# Altium schematic symbol library Dev1.SCHLIB: 99 symbols
Pins are listed as number, name and electrical type; pins without a type are passive.

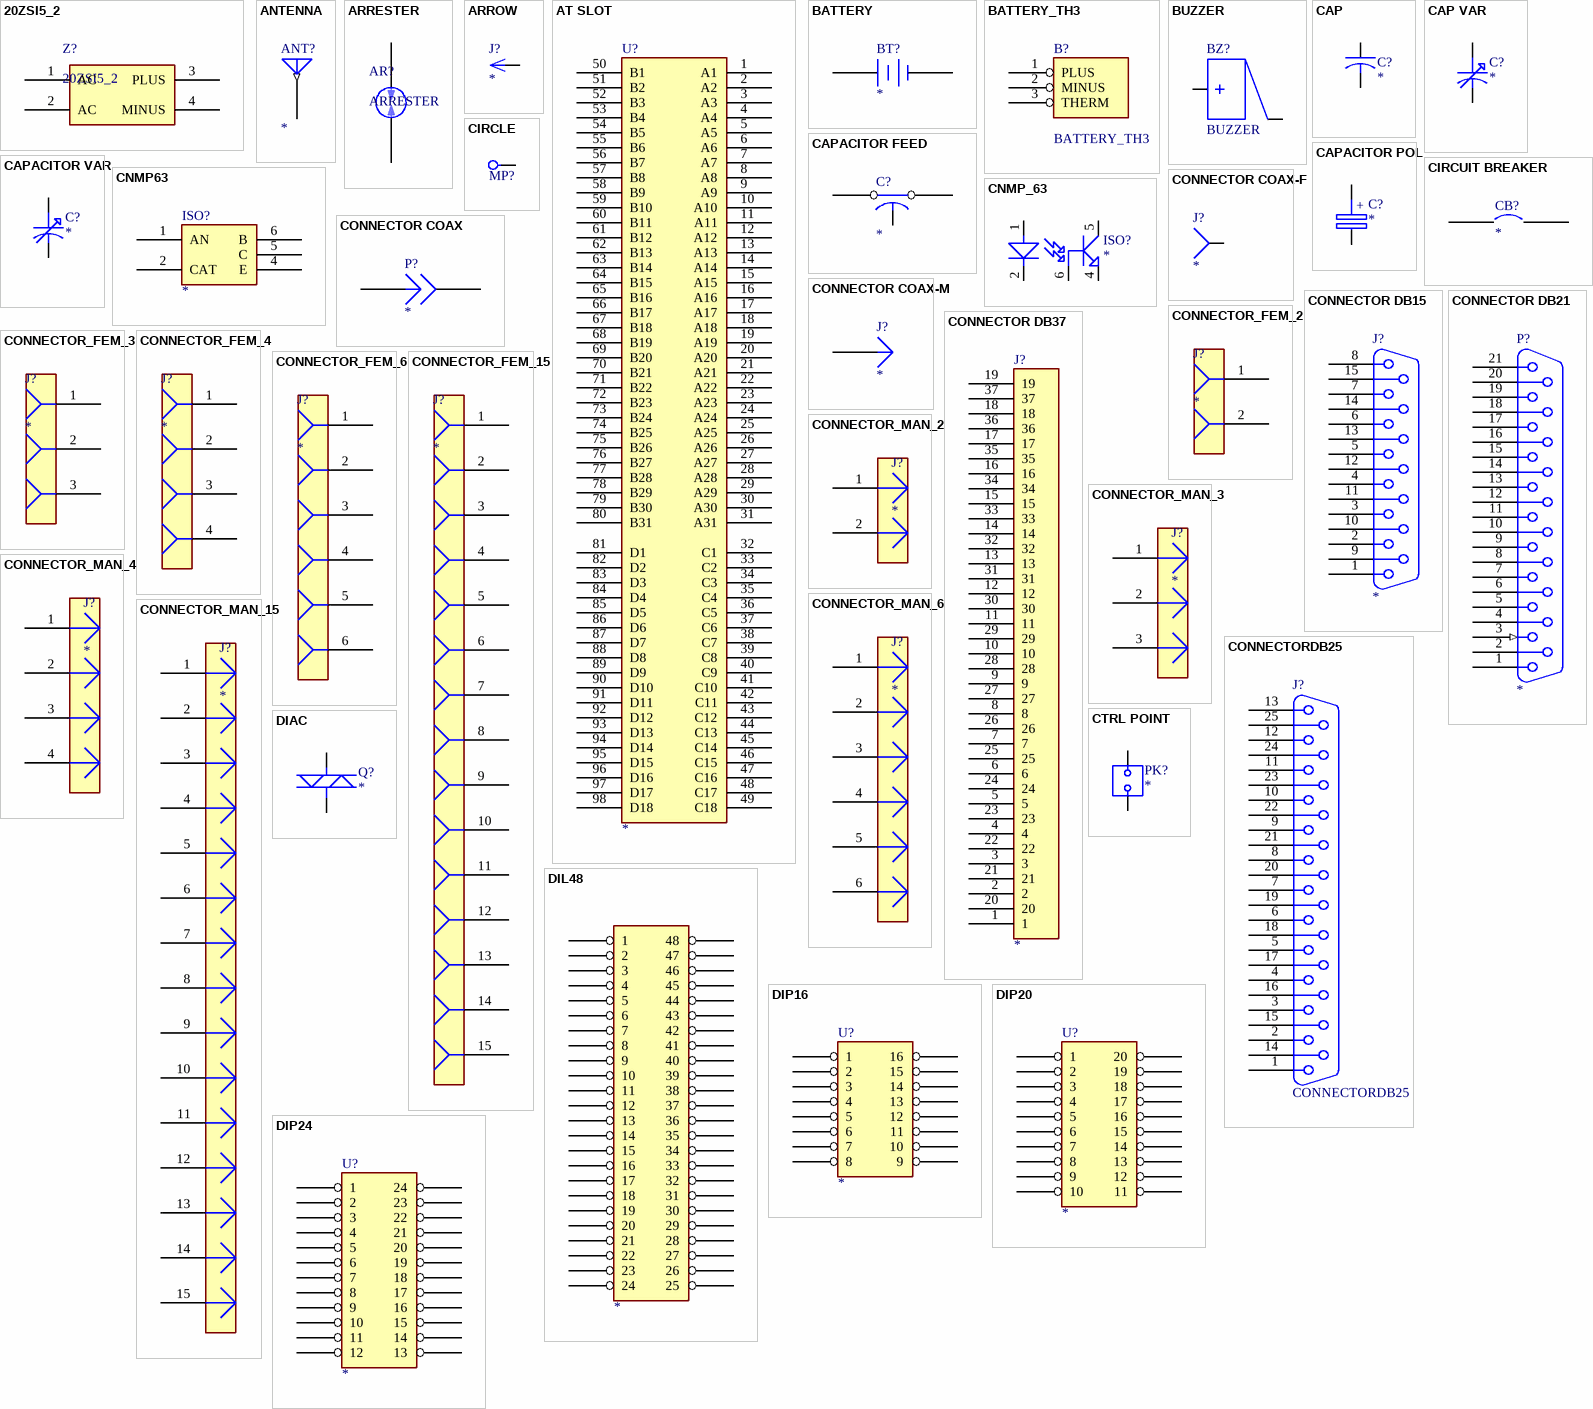
[diagram p0: symbols 20ZSI5_2 to DIP24]

## 20ZSI5_2
designator Z?
Value: 20ZSI5_2
pins: 1 AC, 2 AC, 3 PLUS, 4 MINUS

## ANTENNA
designator ANT?
pins: 1 (out)

## ARRESTER
designator AR?
Value: ARRESTER
pins: 1, 2

## ARROW
designator J?
pins: 1

## AT SLOT
designator U?
pins: 1 A1, 2 A2, 3 A3, 4 A4, 5 A5, 6 A6, 7 A7, 8 A8, 9 A9, 10 A10, 11 A11, 12 A12, 13 A13, 14 A14, 15 A15, 16 A16, 17 A17, 18 A18, 19 A19, 20 A20, 21 A21, 22 A22, 23 A23, 24 A24, 25 A25, 26 A26, 27 A27, 28 A28, 29 A29, 30 A30, 31 A31, 32 C1, 33 C2, 34 C3, 35 C4, 36 C5, 37 C6, 38 C7, 39 C8, 40 C9, 41 C10, 42 C11, 43 C12, 44 C13, 45 C14, 46 C15, 47 C16, 48 C17, 49 C18, 50 B1, 51 B2, 52 B3, 53 B4, 54 B5, 55 B6, 56 B7, 57 B8, 58 B9, 59 B10, 60 B11, 61 B12, 62 B13, 63 B14, 64 B15, 65 B16, 66 B17, 67 B18, 68 B19, 69 B20, 70 B21, 71 B22, 72 B23, 73 B24, 74 B25, 75 B26, 76 B27, 77 B28, 78 B29, 79 B30, 80 B31, 81 D1, 82 D2, 83 D3, 84 D4, 85 D5, 86 D6, 87 D7, 88 D8, 89 D9, 90 D10, 91 D11, 92 D12, 93 D13, 94 D14, 95 D15, 96 D16, 97 D17, 98 D18

## BATTERY
designator BT?
pins: MINU, PLUS

## BATTERY_TH3
designator B?
Value: BATTERY_TH3
pins: 1 PLUS, 2 MINUS, 3 THERM

## BUZZER
designator BZ?
Value: BUZZER
pins: 1, 2

## CAP
designator C?
pins: 1, 2

## CAP VAR
designator C?
pins: 1, 2

## CAPACITOR FEED
designator C?
pins: 1, 2, 3

## CAPACITOR POL
designator C?
pins: 1, 2
text: +

## CAPACITOR VAR
designator C?
pins: 1, 2

## CIRCLE
designator MP?  (value not drawn)  (no BOM)
Order code: don't order, measurement point; Supplier: -----; Value: CIRCLE
footprint TV1
pins: 1

## CIRCUIT BREAKER
designator CB?
pins: 1, 2

## CNMP63
designator ISO?
pins: 1 AN, 2 CAT, 4 E, 5 C, 6 B

## CNMP_63
designator ISO?
pins: 1 ANODE, 2 CATHODE, 4 EMITTER, 5 COLLECTOR, 6 BASE

## CONNECTOR COAX
designator P?
pins: A, B

## CONNECTOR COAX-F
designator J?
pins: A

## CONNECTOR COAX-M
designator J?
pins: 1

## CONNECTOR DB15
designator J?
pins: 1, 2, 3, 4, 5, 6, 7, 8, 9, 10, 11, 12, 13, 14, 15

## CONNECTOR DB21
designator P?
pins: 1, 2, 3 (in), 4 15, 5 3, 6 16, 7 4, 8 17, 9 5, 10 18, 11 6, 12 19, 13 7, 14 20, 15 8, 16 21, 17 9, 18 22, 19 10, 20 23, 21 11

## CONNECTOR DB37
designator J?
pins: 1, 2, 3, 4, 5, 6, 7, 8, 9, 10, 11, 12, 13, 14, 15, 16, 17, 18, 19, 20, 21, 22, 23, 24, 25, 26, 27, 28, 29, 30, 31, 32, 33, 34, 35, 36, 37

## CONNECTOR_FEM_2
designator J?
pins: 1 A, 2 A

## CONNECTOR_FEM_3
designator J?
pins: 1 A, 2 A, 3 A

## CONNECTOR_FEM_4
designator J?
pins: 1 A, 2 A, 3 A, 4 A

## CONNECTOR_FEM_6
designator J?
pins: 1 A, 2 A, 3 A, 4 A, 5, 6

## CONNECTOR_FEM_15
designator J?
pins: 1 A, 2 A, 3 A, 4 A, 5, 6, 7, 8, 9, 10, 11, 12, 13, 14, 15

## CONNECTOR_MAN_2
designator J?
pins: 1, 2 1

## CONNECTOR_MAN_3
designator J?
pins: 1, 2 1, 3 1

## CONNECTOR_MAN_4
designator J?
pins: 1, 2 1, 3 1, 4 1

## CONNECTOR_MAN_6
designator J?
pins: 1, 2 1, 3 1, 4 1, 5 1, 6 1

## CONNECTOR_MAN_15
designator J?
pins: 1, 2 1, 3 1, 4 1, 5 1, 6 1, 7 1, 8 1, 9 1, 10, 11, 12, 13, 14, 15

## CONNECTORDB25
designator J?
Value: CONNECTORDB25
pins: 1, 2, 3, 4, 5, 6, 7, 8, 9, 10, 11, 12, 13, 14, 15, 16, 17, 18, 19, 20, 21, 22, 23, 24, 25

## CTRL POINT
designator PK?
pins: 1, 2

## DIAC
designator Q?
pins: A1, A2

## DIL48
designator ?
pins: 1, 2, 3, 4, 5, 6, 7, 8, 9, 10, 11, 12, 13, 14, 15, 16, 17, 18, 19, 20, 21, 22, 23, 24, 25, 26, 27, 28, 29, 30, 31, 32, 33, 34, 35, 36, 37, 38, 39, 40, 41, 42, 43, 44, 45, 46, 47, 48

## DIP16
designator U?
footprint 16DIP300
pins: 1, 2, 3, 4, 5, 6, 7, 8, 9, 10, 11, 12, 13, 14, 15, 16

## DIP20
designator U?
footprint 20DIP300
pins: 1, 2, 3, 4, 5, 6, 7, 8, 9, 10, 11, 12, 13, 14, 15, 16, 17, 18, 19, 20

## DIP24
designator U?
pins: 1, 2, 3, 4, 5, 6, 7, 8, 9, 10, 11, 12, 13, 14, 15, 16, 17, 18, 19, 20, 21, 22, 23, 24

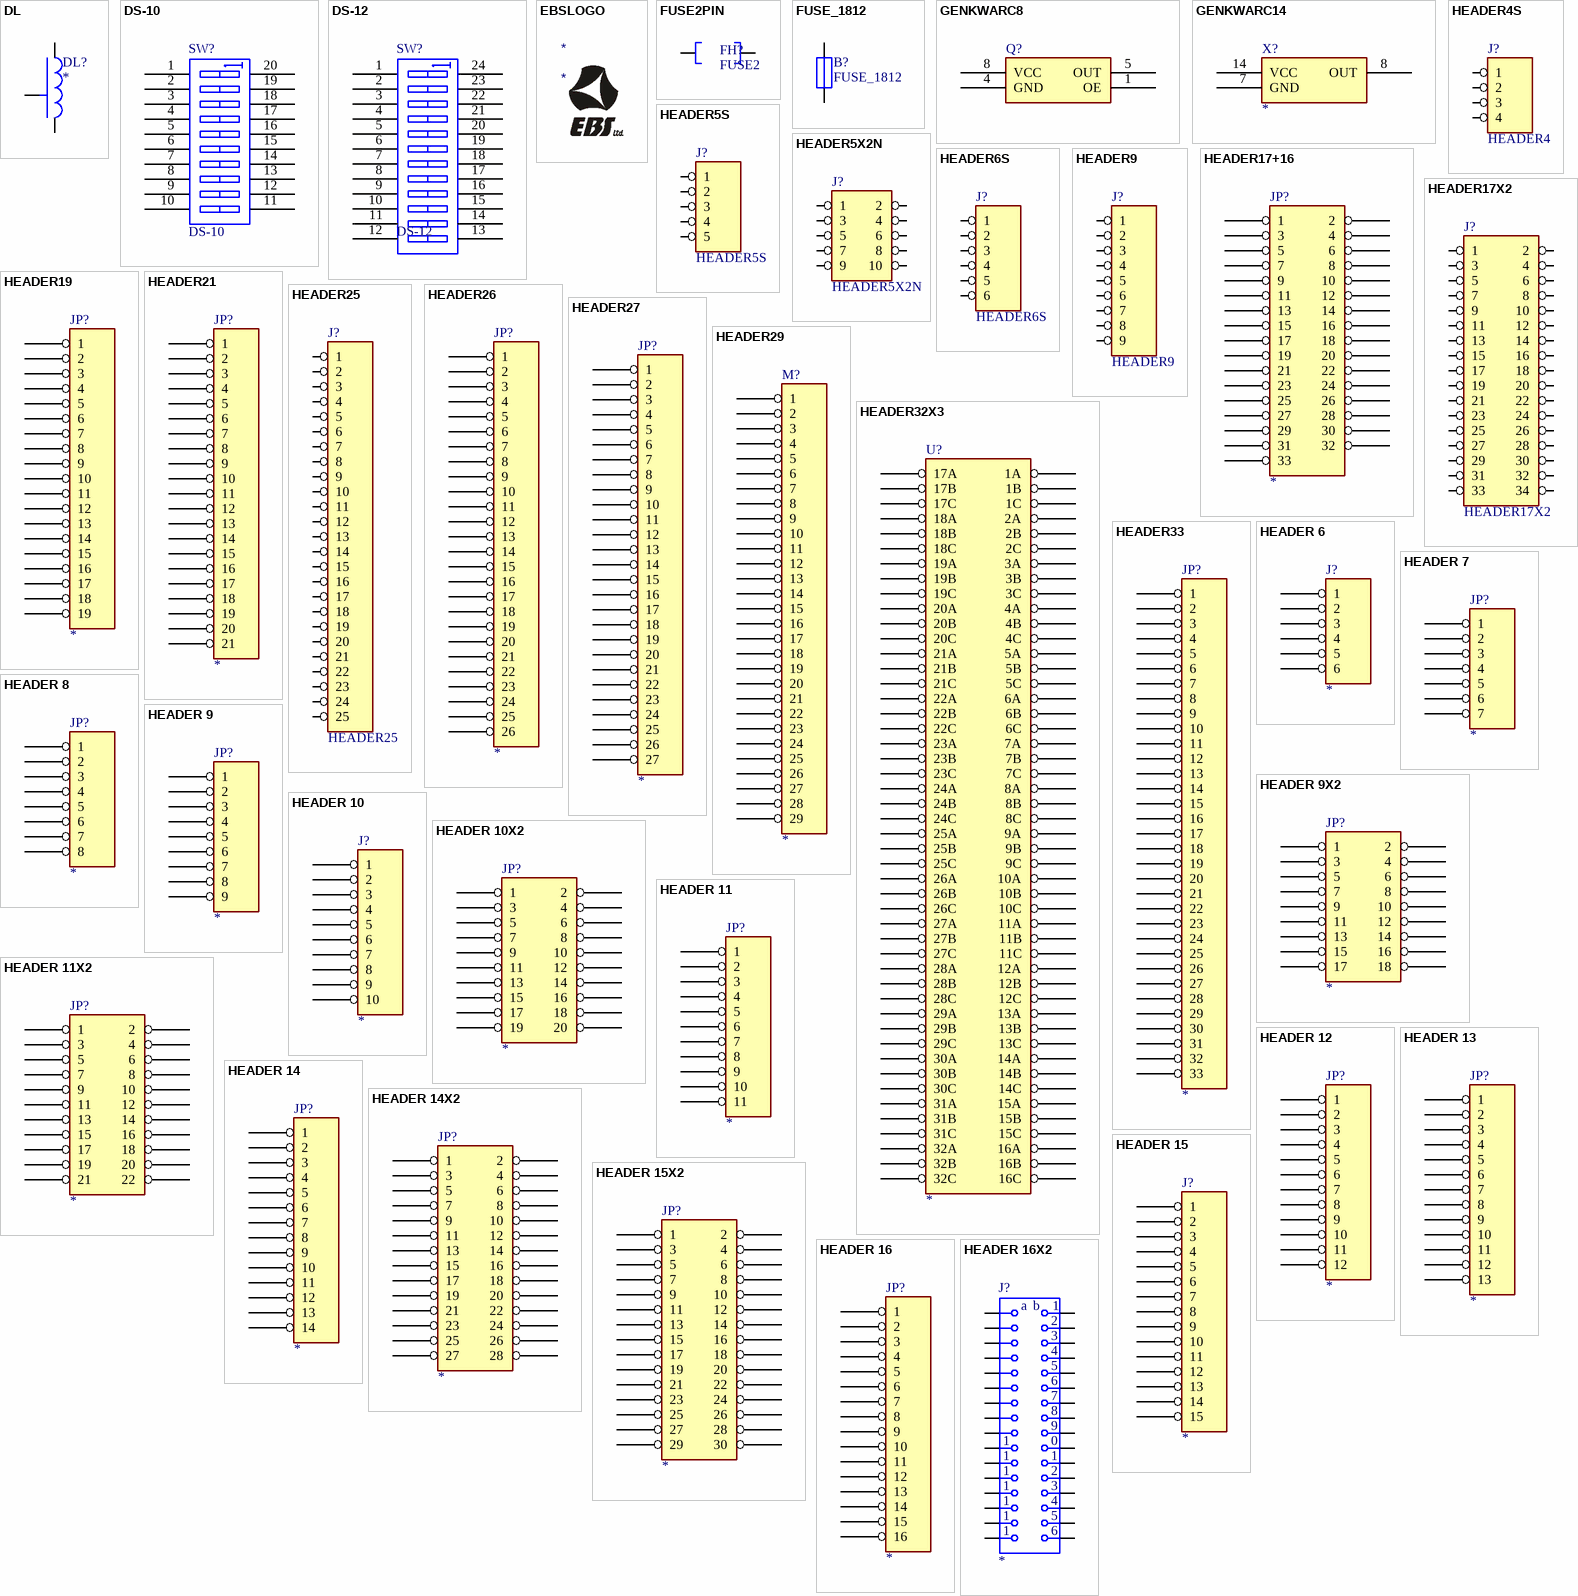
[diagram p1: symbols DL to HEADER 16X2]

## DL
designator DL?
pins: 1, 2, GND

## DS-10
designator SW?
Value: DS-10
footprint 20DIP300
pins: 1 A1, 2 A2, 3 A3, 4 A4, 5 A5, 6 A6, 7 A7, 8 A8, 9 A9, 10 A10, 11 B10, 12 B9, 13 B8, 14 B7, 15 B6, 16 B5, 17 B4, 18 B3, 19 B2, 20 B1

## DS-12
designator SW?
Value: DS-12
footprint 24DIP300 (Footprint not found)
pins: 1 A1, 2 A2, 3 A3, 4 A4, 5 A5, 6 A6, 7 A7, 8 A8, 9 A9, 10 A10, 11 A9, 12 A10, 13 B10, 14 B9, 15 B10, 16 B9, 17 B8, 18 B7, 19 B6, 20 B5, 21 B4, 22 B3, 23 B2, 24 B1

## EBSLOGO
designator *

## FUSE2PIN
designator FH?, comment FUSE2
Value: FUSE2
pins: 1, 2

## FUSE_1812
designator B?
Value: FUSE_1812
footprint 1812
pins: 1, 2

## GENKWARC8
designator Q?
Order code: *; Supplier: *
footprint GENKWARC8
footprint KXO_V97
pins: 1 OE, 4 GND, 5 OUT, 8 VCC

## GENKWARC14
designator X?
footprint GENKWARC14
pins: 7 GND, 8 OUT, 14 VCC

## HEADER4S
designator J?, comment HEADER4  (mechanical)
Value: HEADER4
pins: 1, 2, 3, 4

## HEADER5S
designator J?  (mechanical)
Value: HEADER5S
pins: 1, 2, 3, 4, 5

## HEADER5X2N
designator J?
Connector; Value: HEADER5X2N
pins: 1, 2, 3, 4, 5, 6, 7, 8, 9, 10

## HEADER6S
designator J?  (mechanical)
Value: HEADER6S
pins: 1, 2, 3, 4, 5, 6

## HEADER9
designator J?
Value: HEADER9
pins: 1, 2, 3, 4, 5, 6, 7, 8, 9

## HEADER17+16
designator JP?
pins: 1, 2, 3, 4, 5, 6, 7, 8, 9, 10, 11, 12, 13, 14, 15, 16, 17, 18, 19, 20, 21, 22, 23, 24, 25, 26, 27, 28, 29, 30, 31, 32, 33

## HEADER17X2
designator J?
Value: HEADER17X2
pins: 1, 2, 3, 4, 5, 6, 7, 8, 9, 10, 11, 12, 13, 14, 15, 16, 17, 18, 19, 20, 21, 22, 23, 24, 25, 26, 27, 28, 29, 30, 31, 32, 33, 34

## HEADER19
designator JP?
pins: 1, 2, 3, 4, 5, 6, 7, 8, 9, 10, 11, 12, 13, 14, 15, 16, 17, 18, 19

## HEADER21
designator JP?
pins: 1, 2, 3, 4, 5, 6, 7, 8, 9, 10, 11, 12, 13, 14, 15, 16, 17, 18, 19, 20, 21

## HEADER25
designator J?
Value: HEADER25
pins: 1, 2, 3, 4, 5, 6, 7, 8, 9, 10, 11, 12, 13, 14, 15, 16, 17, 18, 19, 20, 21, 22, 23, 24, 25

## HEADER26
designator JP?
footprint 26SIP100
pins: 1, 2, 3, 4, 5, 6, 7, 8, 9, 10, 11, 12, 13, 14, 15, 16, 17, 18, 19, 20, 21, 22, 23, 24, 25, 26

## HEADER27
designator JP?
footprint 27SIP100
pins: 1, 2, 3, 4, 5, 6, 7, 8, 9, 10, 11, 12, 13, 14, 15, 16, 17, 18, 19, 20, 21, 22, 23, 24, 25, 26, 27

## HEADER29
designator M?
pins: 1, 2, 3, 4, 5, 6, 7, 8, 9, 10, 11, 12, 13, 14, 15, 16, 17, 18, 19, 20, 21, 22, 23, 24, 25, 26, 27, 28, 29

## HEADER32X3
designator U?
pins: 1A, 1B, 1C, 2A, 2B, 2C, 3A, 3B, 3C, 4A, 4B, 4C, 5A, 5B, 5C, 6A, 6B, 6C, 7A, 7B, 7C, 8A, 8B, 8C, 9A, 9B, 9C, 10A, 10B, 10C, 11A, 11B, 11C, 12A, 12B, 12C, 13A, 13B, 13C, 14A, 14B, 14C, 15A, 15B, 15C, 16A, 16B, 16C, 17A, 17B, 17C, 18A, 18B, 18C, 19A, 19B, 19C, 20A, 20B, 20C, 21A, 21B, 21C, 22A, 22B, 22C, 23A, 23B, 23C, 24A, 24B, 24C, 25A, 25B, 25C, 26A, 26B, 26C, 27A, 27B, 27C, 28A, 28B, 28C, 29A, 29B, 29C, 30A, 30B, 30C, 31A, 31B, 31C, 32A, 32B, 32C

## HEADER33
designator JP?
pins: 1, 2, 3, 4, 5, 6, 7, 8, 9, 10, 11, 12, 13, 14, 15, 16, 17, 18, 19, 20, 21, 22, 23, 24, 25, 26, 27, 28, 29, 30, 31, 32, 33

## HEADER 6
designator J?
footprint H6X5MM
footprint 6SIP100
pins: 1, 2, 3, 4, 5, 6

## HEADER 7
designator JP?
pins: 1, 2, 3, 4, 5, 6, 7

## HEADER 8
designator JP?
footprint H8X5MM
pins: 1, 2, 3, 4, 5, 6, 7, 8

## HEADER 9
designator JP?
footprint 9SIP100
pins: 1, 2, 3, 4, 5, 6, 7, 8, 9

## HEADER 9X2
designator JP?
pins: 1, 2, 3, 4, 5, 6, 7, 8, 9, 10, 11, 12, 13, 14, 15, 16, 17, 18

## HEADER 10
designator J?
footprint IDC10
pins: 1, 2, 3, 4, 5, 6, 7, 8, 9, 10

## HEADER 10X2
designator JP?
pins: 1, 2, 3, 4, 5, 6, 7, 8, 9, 10, 11, 12, 13, 14, 15, 16, 17, 18, 19, 20

## HEADER 11
designator JP?
pins: 1, 2, 3, 4, 5, 6, 7, 8, 9, 10, 11

## HEADER 11X2
designator JP?
pins: 1, 2, 3, 4, 5, 6, 7, 8, 9, 10, 11, 12, 13, 14, 15, 16, 17, 18, 19, 20, 21, 22

## HEADER 12
designator JP?
footprint 12SIP100
pins: 1, 2, 3, 4, 5, 6, 7, 8, 9, 10, 11, 12

## HEADER 13
designator JP?
pins: 1, 2, 3, 4, 5, 6, 7, 8, 9, 10, 11, 12, 13

## HEADER 14
designator JP?
pins: 1, 2, 3, 4, 5, 6, 7, 8, 9, 10, 11, 12, 13, 14

## HEADER 14X2
designator JP?
pins: 1, 2, 3, 4, 5, 6, 7, 8, 9, 10, 11, 12, 13, 14, 15, 16, 17, 18, 19, 20, 21, 22, 23, 24, 25, 26, 27, 28

## HEADER 15
designator J?
pins: 1, 2, 3, 4, 5, 6, 7, 8, 9, 10, 11, 12, 13, 14, 15

## HEADER 15X2
designator JP?
pins: 1, 2, 3, 4, 5, 6, 7, 8, 9, 10, 11, 12, 13, 14, 15, 16, 17, 18, 19, 20, 21, 22, 23, 24, 25, 26, 27, 28, 29, 30

## HEADER 16
designator JP?
pins: 1, 2, 3, 4, 5, 6, 7, 8, 9, 10, 11, 12, 13, 14, 15, 16

## HEADER 16X2
designator J?
pins: 1, 2, 3, 4, 5, 6, 7, 8, 9, 10, 11, 12, 13, 14, 15, 16, 17, 18, 19, 20, 21, 22, 23, 24, 25, 26, 27, 28, 29, 30, 31, 32
text: a; b; 0

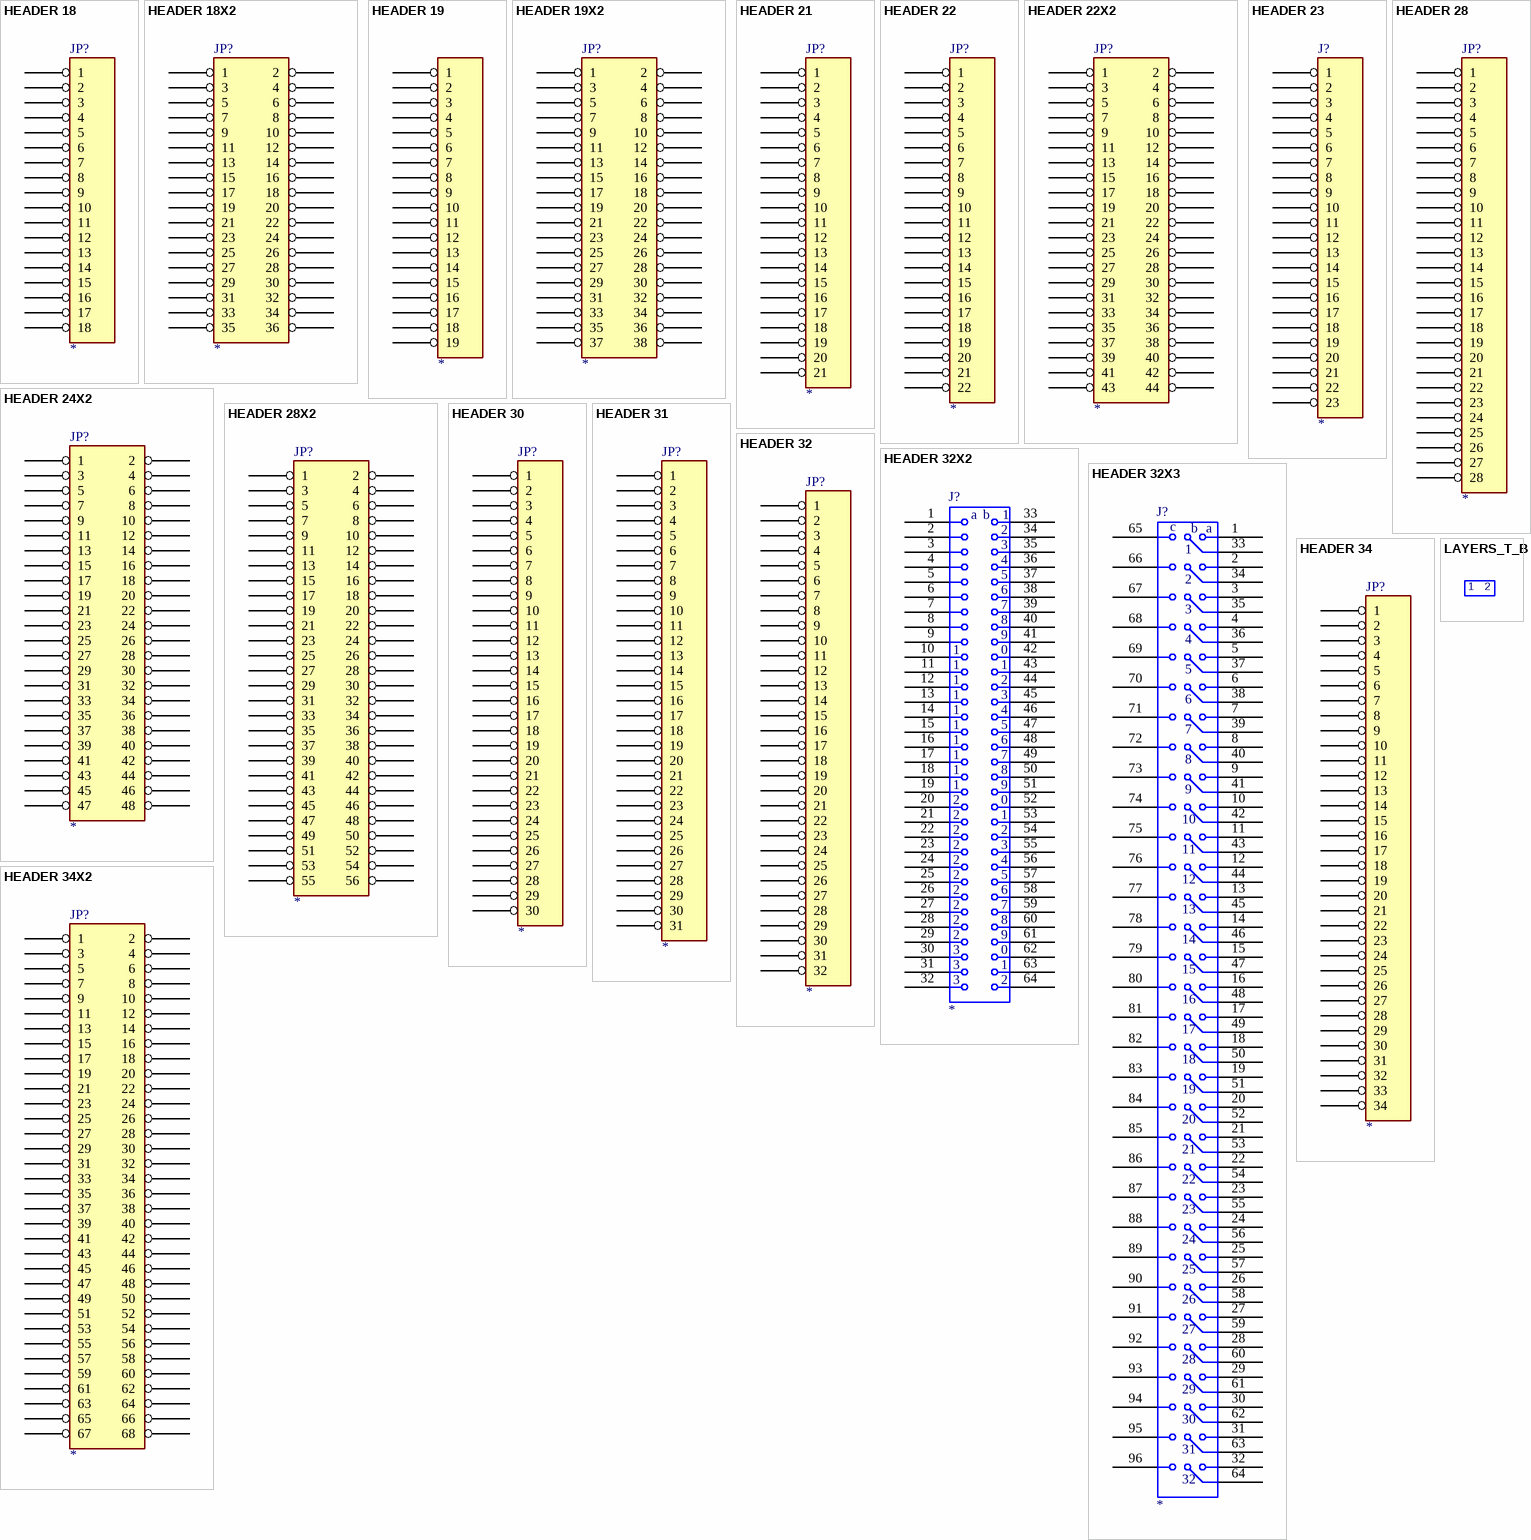
[diagram p2: symbols HEADER 18 to LAYERS_T_B]

## HEADER 18
designator JP?
pins: 1, 2, 3, 4, 5, 6, 7, 8, 9, 10, 11, 12, 13, 14, 15, 16, 17, 18

## HEADER 18X2
designator JP?
pins: 1, 2, 3, 4, 5, 6, 7, 8, 9, 10, 11, 12, 13, 14, 15, 16, 17, 18, 19, 20, 21, 22, 23, 24, 25, 26, 27, 28, 29, 30, 31, 32, 33, 34, 35, 36

## HEADER 19
designator ?
pins: 1, 2, 3, 4, 5, 6, 7, 8, 9, 10, 11, 12, 13, 14, 15, 16, 17, 18, 19

## HEADER 19X2
designator JP?
pins: 1, 2, 3, 4, 5, 6, 7, 8, 9, 10, 11, 12, 13, 14, 15, 16, 17, 18, 19, 20, 21, 22, 23, 24, 25, 26, 27, 28, 29, 30, 31, 32, 33, 34, 35, 36, 37, 38

## HEADER 21
designator JP?
pins: 1, 2, 3, 4, 5, 6, 7, 8, 9, 10, 11, 12, 13, 14, 15, 16, 17, 18, 19, 20, 21

## HEADER 22
designator JP?
pins: 1, 2, 3, 4, 5, 6, 7, 8, 9, 10, 11, 12, 13, 14, 15, 16, 17, 18, 19, 20, 21, 22

## HEADER 22X2
designator JP?
pins: 1, 2, 3, 4, 5, 6, 7, 8, 9, 10, 11, 12, 13, 14, 15, 16, 17, 18, 19, 20, 21, 22, 23, 24, 25, 26, 27, 28, 29, 30, 31, 32, 33, 34, 35, 36, 37, 38, 39, 40, 41, 42, 43, 44

## HEADER 23
designator J?
pins: 1, 2, 3, 4, 5, 6, 7, 8, 9, 10, 11, 12, 13, 14, 15, 16, 17, 18, 19, 20, 21, 22, 23

## HEADER 24X2
designator JP?
pins: 1, 2, 3, 4, 5, 6, 7, 8, 9, 10, 11, 12, 13, 14, 15, 16, 17, 18, 19, 20, 21, 22, 23, 24, 25, 26, 27, 28, 29, 30, 31, 32, 33, 34, 35, 36, 37, 38, 39, 40, 41, 42, 43, 44, 45, 46, 47, 48

## HEADER 28
designator JP?
pins: 1, 2, 3, 4, 5, 6, 7, 8, 9, 10, 11, 12, 13, 14, 15, 16, 17, 18, 19, 20, 21, 22, 23, 24, 25, 26, 27, 28

## HEADER 28X2
designator JP?
pins: 1, 2, 3, 4, 5, 6, 7, 8, 9, 10, 11, 12, 13, 14, 15, 16, 17, 18, 19, 20, 21, 22, 23, 24, 25, 26, 27, 28, 29, 30, 31, 32, 33, 34, 35, 36, 37, 38, 39, 40, 41, 42, 43, 44, 45, 46, 47, 48, 49, 50, 51, 52, 53, 54, 55, 56

## HEADER 30
designator JP?
pins: 1, 2, 3, 4, 5, 6, 7, 8, 9, 10, 11, 12, 13, 14, 15, 16, 17, 18, 19, 20, 21, 22, 23, 24, 25, 26, 27, 28, 29, 30

## HEADER 31
designator JP?
pins: 1, 2, 3, 4, 5, 6, 7, 8, 9, 10, 11, 12, 13, 14, 15, 16, 17, 18, 19, 20, 21, 22, 23, 24, 25, 26, 27, 28, 29, 30, 31

## HEADER 32
designator JP?
pins: 1, 2, 3, 4, 5, 6, 7, 8, 9, 10, 11, 12, 13, 14, 15, 16, 17, 18, 19, 20, 21, 22, 23, 24, 25, 26, 27, 28, 29, 30, 31, 32

## HEADER 32X2
designator J?
footprint 811064
footprint QM64TG
pins: 1, 2, 3, 4, 5, 6, 7, 8, 9, 10, 11, 12, 13, 14, 15, 16, 17, 18, 19, 20, 21, 22, 23, 24, 25, 26, 27, 28, 29, 30, 31, 32, 33, 34, 35, 36, 37, 38, 39, 40, 41, 42, 43, 44, 45, 46, 47, 48, 49, 50, 51, 52, 53, 54, 55, 56, 57, 58, 59, 60, 61, 62, 63, 64
text: a; b; 0

## HEADER 32X3
designator J?
footprint 811096
pins: 1, 2, 3, 4, 5, 6, 7, 8, 9, 10, 11, 12, 13, 14, 15, 16, 17, 18, 19, 20, 21, 22, 23, 24, 25, 26, 27, 28, 29, 30, 31, 32, 33, 34, 35, 36, 37, 38, 39, 40, 41, 42, 43, 44, 45, 46, 47, 48, 49, 50, 51, 52, 53, 54, 55, 56, 57, 58, 59, 60, 61, 62, 63, 64, 65, 66, 67, 68, 69, 70, 71, 72, 73, 74, 75, 76, 77, 78, 79, 80, 81, 82, 83, 84, 85, 86, 87, 88, 89, 90, 91, 92, 93, 94, 95, 96
text: c; b; a

## HEADER 34
designator JP?
pins: 1, 2, 3, 4, 5, 6, 7, 8, 9, 10, 11, 12, 13, 14, 15, 16, 17, 18, 19, 20, 21, 22, 23, 24, 25, 26, 27, 28, 29, 30, 31, 32, 33, 34

## HEADER 34X2
designator JP?
pins: 1, 2, 3, 4, 5, 6, 7, 8, 9, 10, 11, 12, 13, 14, 15, 16, 17, 18, 19, 20, 21, 22, 23, 24, 25, 26, 27, 28, 29, 30, 31, 32, 33, 34, 35, 36, 37, 38, 39, 40, 41, 42, 43, 44, 45, 46, 47, 48, 49, 50, 51, 52, 53, 54, 55, 56, 57, 58, 59, 60, 61, 62, 63, 64, 65, 66, 67, 68

## LAYERS_T_B
designator LAYERS?  (value not drawn)  (no BOM)
Value: LAYERS_T_B
text: 1; 2